# EAGLE library part LCD-I2C (library eagleLib v2)
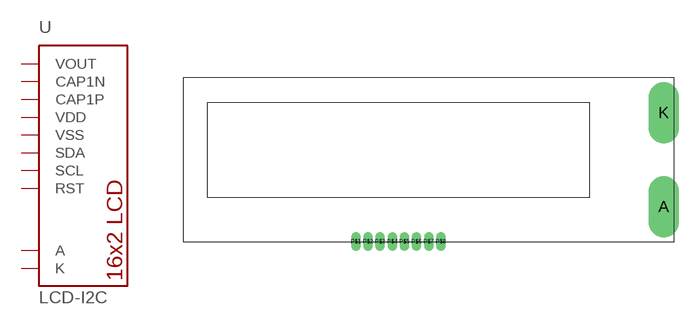
[diagram p73: symbol with the pads of LCD-I2C; footprint LCD-I2C]

Designator prefix -

## LCD-I2C  [LCD-I2C]
A  A  pwr
K  K  pwr
P$1  VOUT  pwr
P$2  CAP1N  pwr
P$3  CAP1P
P$4  VDD  in
P$5  VSS  in
P$6  SDA  in
P$7  SCL
P$8  RST

## Footprint LCD-I2C (pad centres in mm)
drill 2.2 pad 2.54 long: A 24.606,-4.921; K 24.606,4.921
drill 0.508 pad 0.813 long: P$1 -7.62,-8.572; P$2 -6.35,-8.572; P$3 -5.08,-8.572; P$4 -3.81,-8.572; P$5 -2.54,-8.572; P$6 -1.27,-8.572; P$7 0,-8.572; P$8 1.27,-8.572